# Altium footprint library PcbLib_cloudy.PcbLib: 15 footprints
Each footprint in its own frame and in the unit in brackets; x right, y up, seen from the top. Pads: shape width x height; smd on the part's side, far side on the other; paste and mask are expansions set on the pad; w line width, h text height; cw(c..) or ccw(c..) is an arc to the next point about the centre after c.
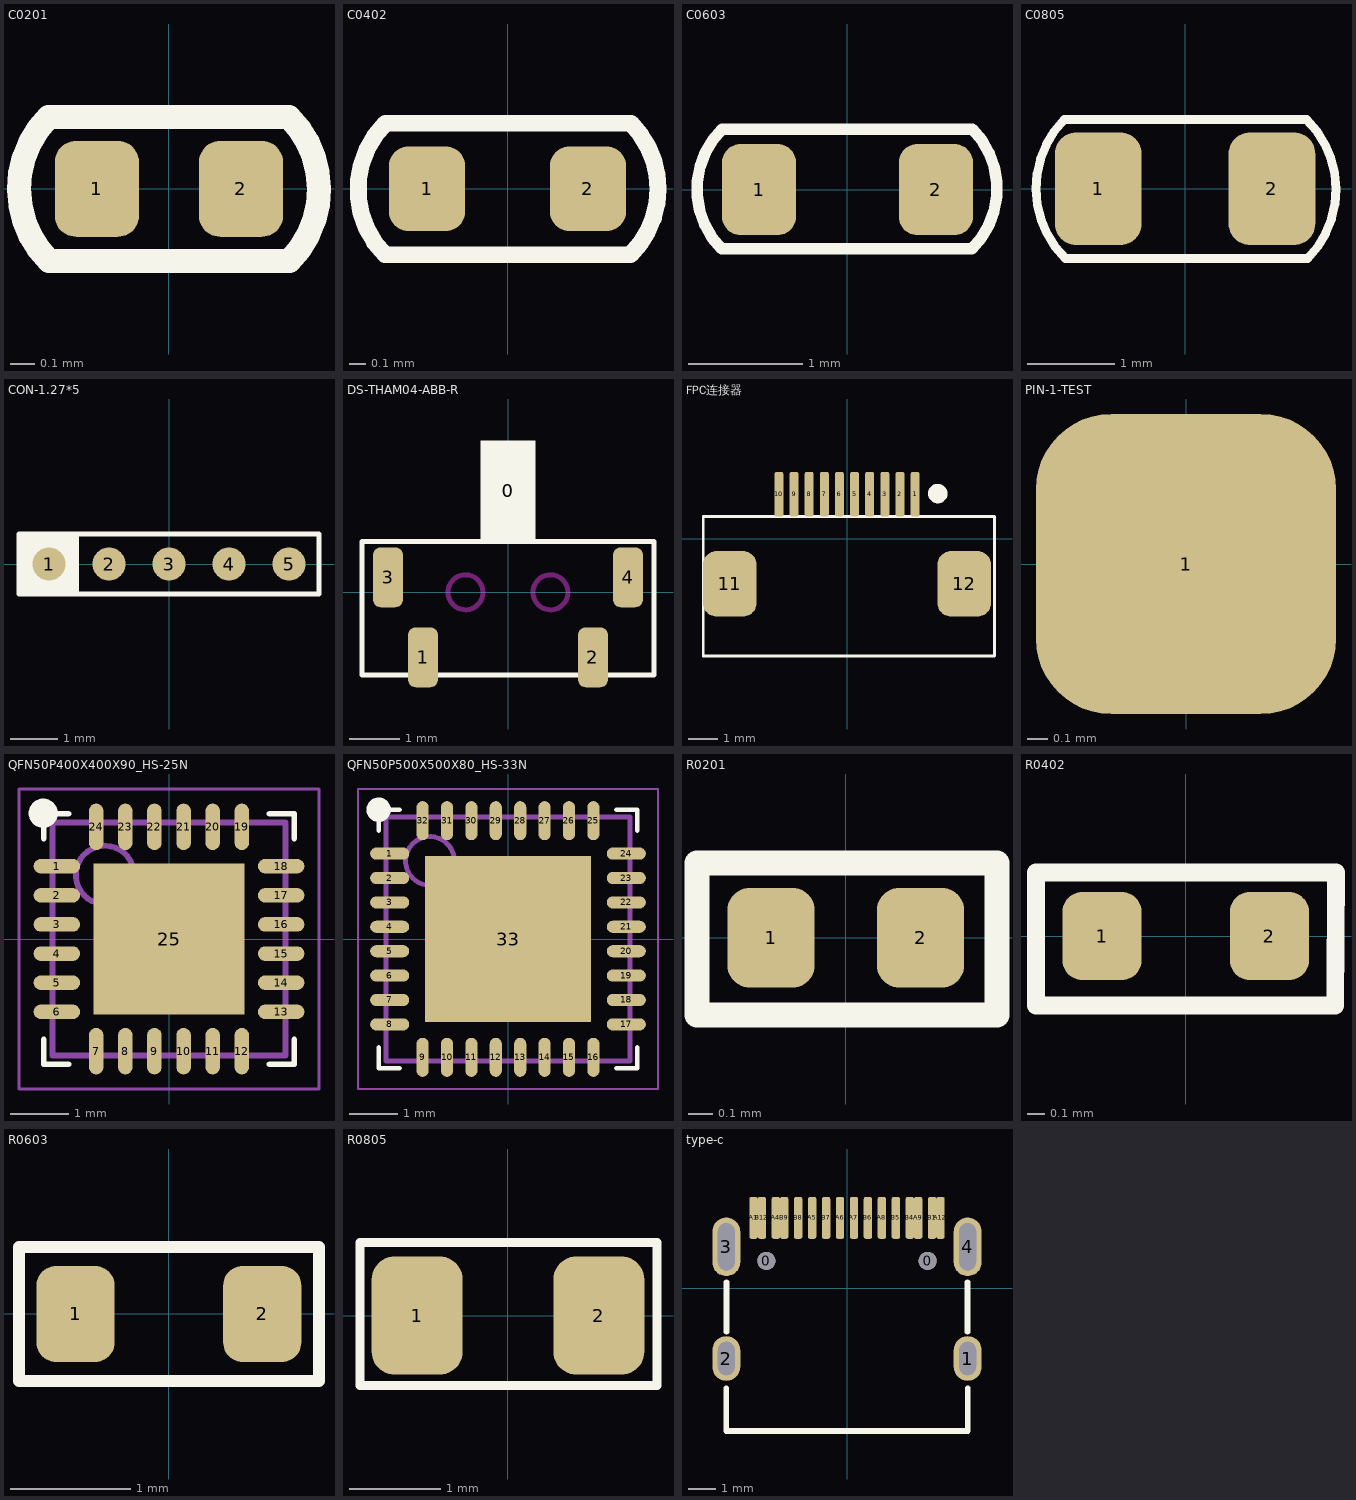
[diagram p0: the footprints below, top view; thin cyan lines are the x and y axes]

## C0201 [mm]
pads (2):
  rrect50% 0.35x0.4 smd: 1(-0.3,0) 2(0.3,0)
Top Overlay:
  lines w0.1: -0.501,0.3 ccw(c-0.2,0) -0.499,-0.301 0.501,-0.301 ccw(c0.2,-0.001) 0.5,0.3 -0.501,0.3

## C0402 [mm]
pads (2):
  rrect50% 0.45x0.5 smd: 1(-0.475,0) 2(0.475,0)
Top Overlay:
  lines w0.1: -0.723,-0.389 cw(c-0.334,-0.003) -0.721,0.387 0.729,0.387 cw(c0.34,0) 0.726,-0.389 -0.723,-0.389

## C0603 [mm]
pads (2):
  rrect50% 0.65x0.8 smd: 1(-0.775,0) 2(0.775,0)
Top Overlay:
  lines w0.1: -1.103,-0.52 cw(c-0.576,0.003) -1.099,0.53 1.095,0.53 cw(c0.568,0.007) 1.091,-0.52 -1.103,-0.52

## C0805 [mm]
pads (2):
  rrect50% 1x1.3 smd: 1(-1,0) 2(1,0)
Top Overlay:
  lines w0.1: -1.393,0.797 ccw(c-0.585,0.005) -1.378,-0.803 1.413,-0.803 ccw(c0.605,-0.01) 1.398,0.797 -1.393,0.797

## CON-1.27*5 [mm]
pads (5):
  round 0.7 smd: 1(-2.54,0) 2(-1.27,0) 3(0,0) 4(1.27,0) 5(2.54,0)
Top Overlay:
  rectangle: -3.175,-0.635 -1.905,0.635
  lines w0.1: -3.175,-0.635 -3.175,0.635 3.175,0.635 3.175,-0.635 -3.175,-0.635

## DS-THAM04-ABB-R [mm] "轻触开关，侧边卧贴"
pads (5):
  rect 1.1x2 on Top Overlay: 0(0,2.032)
  rrect50% 0.6x1.2 smd: 1(-1.7,-1.3) 2(1.7,-1.3) 3(-2.4,0.3) 4(2.4,0.3)
Top Overlay:
  lines w0.1: -2.921,-1.651 -0.381,-1.651 2.921,-1.651 2.921,1.016 -2.921,1.016 -2.921,-1.651
Keep-Out Layer:
  circle w0.1: c0.85,0 r0.35
  circle w0.1: c-0.85,0 r0.35

## FPC连接器 [mm] "0.5mm间距，翻盖下接"
pads (12):
  rrect50% 0.3x1.5 smd: 1(2.286,1.506) 2(1.778,1.506) 3(1.27,1.506) 4(0.762,1.506) 5(0.254,1.506) 6(-0.254,1.506) 7(-0.762,1.506) 8(-1.27,1.506) 9(-1.778,1.506) 10(-2.286,1.506)
  rrect50% 1.8x2.2 smd: 11(-3.936,-1.506) 12(3.936,-1.506)
Top Overlay:
  circle w0.4: c3.048,1.524 r0.127
  lines w0.1: -4.826,-3.937 4.953,-3.937 4.953,0.762 -2.413,0.762 -4.826,0.762 -4.826,-3.937

## PIN-1-TEST [mm]
pads (1):
  rrect50% 1.5x1.5 smd: 1(0,0)

## QFN50P400X400X90_HS-25N [mm] "QFN, 24-Leads, Body 4.00x4.00mm, Pitch 0.50mm, Thermal Pad 2.60x2.60mm, IPC Medium Density"
height 0.9
pads (25):
  oval 0.8x0.25 smd: 1(-1.925,1.25) 2(-1.925,0.75) 3(-1.925,0.25) 4(-1.925,-0.25) 5(-1.925,-0.75) 6(-1.925,-1.25) 13(1.925,-1.25) 14(1.925,-0.75) 15(1.925,-0.25) 16(1.925,0.25) 17(1.925,0.75) 18(1.925,1.25)
  oval 0.25x0.8 smd: 7(-1.25,-1.925) 8(-0.75,-1.925) 9(-0.25,-1.925) 10(0.25,-1.925) 11(0.75,-1.925) 12(1.25,-1.925) 19(1.25,1.925) 20(0.75,1.925) 21(0.25,1.925) 22(-0.25,1.925) 23(-0.75,1.925) 24(-1.25,1.925)
  rect 2.6x2.6 smd: 25(0,0)
Top Overlay:
  circle w0.25: c-2.159,2.159 r0.125
  lines w0.1: -2.15,-1.725 -2.15,-2.15 -1.725,-2.15 ; -2.15,1.725 -2.15,2.15 -1.725,2.15 ; 1.725,-2.15 2.15,-2.15 2.15,-1.725 ; 1.725,2.15 2.15,2.15 2.15,1.725
Mechanical 13:
  circle w0.1: c-1.1,1.1 r0.5
  lines w0.1: -2,-2 -2,2 2,2 2,-2 -2,-2
Mechanical 15:
  lines w0.05: -2.575,-2.575 -2.575,2.575 2.575,2.575 2.575,-2.575 -2.575,-2.575
  lines w0.1: -0.5,0 0.5,0 ; 0,-0.5 0,0.5
3D body: height 0.9, standoff 0.02, extent -2,-2 2,2

## QFN50P500X500X80_HS-33N [mm] "QFN, 32-Leads, Body 5.00x5.00mm, Pitch 0.50mm, Thermal Pad 3.70x3.70mm, IPC Medium Density"
height 0.8
pads (33):
  oval 0.8x0.25 smd: 1(-2.425,1.75) 2(-2.425,1.25) 3(-2.425,0.75) 4(-2.425,0.25) 5(-2.425,-0.25) 6(-2.425,-0.75) 7(-2.425,-1.25) 8(-2.425,-1.75) 17(2.425,-1.75) 18(2.425,-1.25) 19(2.425,-0.75) 20(2.425,-0.25) 21(2.425,0.25) 22(2.425,0.75) 23(2.425,1.25) 24(2.425,1.75)
  oval 0.25x0.8 smd: 9(-1.75,-2.425) 10(-1.25,-2.425) 11(-0.75,-2.425) 12(-0.25,-2.425) 13(0.25,-2.425) 14(0.75,-2.425) 15(1.25,-2.425) 16(1.75,-2.425) 25(1.75,2.425) 26(1.25,2.425) 27(0.75,2.425) 28(0.25,2.425) 29(-0.25,2.425) 30(-0.75,2.425) 31(-1.25,2.425) 32(-1.75,2.425)
  rect 3.4x3.4 smd: 33(0,0)
Top Overlay:
  circle w0.25: c-2.65,2.65 r0.125
  lines w0.1: -2.65,-2.225 -2.65,-2.65 -2.225,-2.65 ; -2.65,2.225 -2.65,2.65 -2.225,2.65 ; 2.225,-2.65 2.65,-2.65 2.65,-2.225 ; 2.225,2.65 2.65,2.65 2.65,2.225
Mechanical 13:
  circle w0.1: c-1.6,1.6 r0.5
  lines w0.1: -2.5,-2.5 2.5,-2.5 2.5,2.5 -2.5,2.5 -2.5,-2.5
Mechanical 15:
  lines w0.05: -3.075,-3.075 3.075,-3.075 3.075,3.075 -3.075,3.075 -3.075,-3.075
  lines w0.1: -0.5,0 0.5,0 ; 0,-0.5 0,0.5
3D body "QFN50P500X500X80_HS-33N.step": height 0.8, standoff 0, extent -2.52,-2.52 2.52,2.52

## R0201 [mm]
pads (2):
  rrect50% 0.35x0.4 smd: 1(-0.3,0) 2(0.3,0)
Top Overlay:
  lines w0.1: -0.597,-0.31 0.607,-0.31 0.607,0.3 -0.597,0.3 -0.597,-0.31

## R0402 [mm]
pads (2):
  rrect50% 0.45x0.5 smd: 1(-0.475,0) 2(0.475,0)
Top Overlay:
  lines w0.1: 0.85,0.361 -0.85,0.361 -0.85,-0.394 0.85,-0.394 0.853,0.361

## R0603 [mm]
pads (2):
  rrect50% 0.65x0.8 smd: 1(-0.775,0) 2(0.775,0)
Top Overlay:
  lines w0.1: -1.245,-0.557 -1.245,0.557 1.247,0.557 1.247,-0.557 -1.245,-0.557

## R0805 [mm]
pads (2):
  rrect50% 1x1.3 smd: 1(-1,0) 2(1,0)
Top Overlay:
  lines w0.1: -1.63,-0.769 -1.63,0.803 1.641,0.803 1.641,-0.769 -1.63,-0.769

## type-c [mm]
pads (22):
  round 0.65 hole 0.65: 0(-2.89,0.98) 0(2.89,0.98)
  oval 1x1.6 hole 0.6 slot 1.2 at 90 deg: 1(4.325,-2.52) 2(-4.325,-2.52)
  oval 1x2.1 hole 0.6 slot 1.7 at 90 deg: 3(-4.325,1.48) 4(4.325,1.48)
  rrect50% 0.3x1.5 smd: A1(-3.35,2.52) A4(-2.55,2.52) A5(-1.25,2.52) A6(-0.25,2.52) A7(0.25,2.52) A8(1.25,2.52) A9(2.55,2.52) A12(3.35,2.52) B1(3.05,2.52) B4(2.25,2.52) B5(1.75,2.52) B6(0.75,2.52) B7(-0.75,2.52) B8(-1.75,2.52) B9(-2.25,2.52) B12(-3.05,2.52)
Top Overlay:
  lines w0.203: -4.325,-3.591 -4.325,-5.12 4.325,-5.12 4.325,-3.591 ; -4.318,-1.559 -4.318,0.219 ; 4.318,-1.559 4.318,0.219
3D body "User Library-1054500101.STEP": height 3.28, standoff -0.68, extent -4.476,-5.255 4.464,2.645